# Altium footprint library TallyLight.PcbLib: 10 footprints
Each footprint in its own frame and in the unit in brackets; x right, y up, seen from the top. Pads: shape width x height; smd on the part's side, far side on the other; paste and mask are expansions set on the pad; w line width, h text height; cw(c..) or ccw(c..) is an arc to the next point about the centre after c.
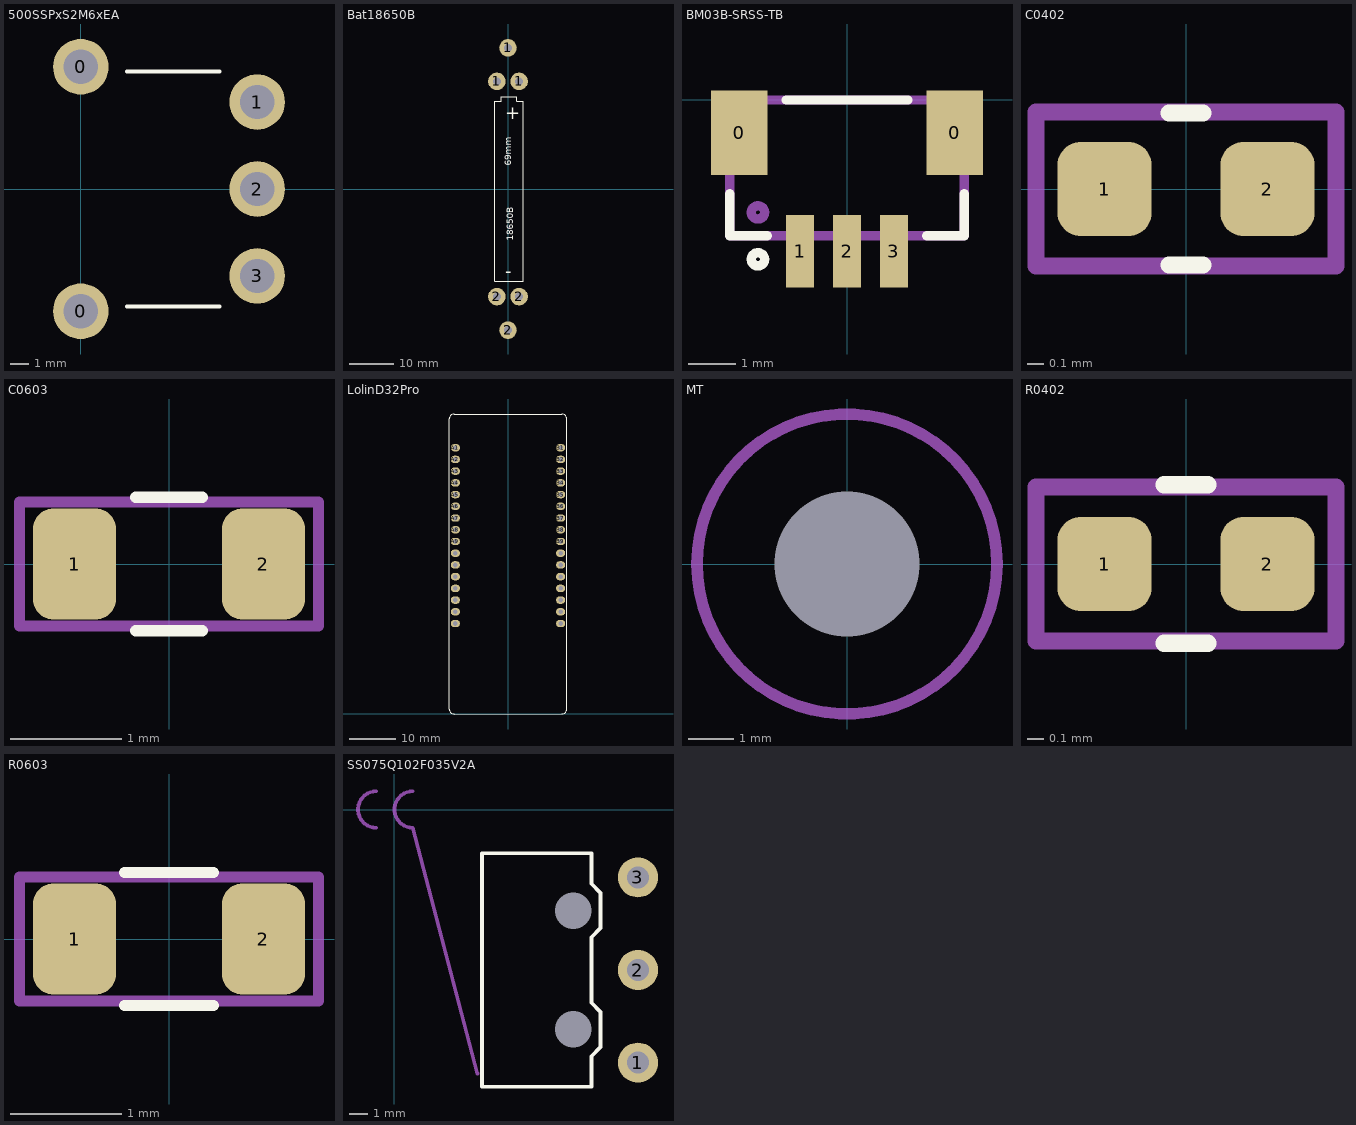
[diagram p0: the footprints below, top view; thin cyan lines are the x and y axes]

## 500SSPxS2M6xEA [mm]
pads (5):
  round 3 hole 1.85: 0(0,-6.605) 0(0,6.605) 1(9.53,4.7) 2(9.53,0) 3(9.53,-4.7)
Top Overlay:
  lines w0.2: 2.5,-6.35 7.5,-6.35 ; 2.5,6.35 7.5,6.35
3D body "500SSPxS2M6xEA.stp": height 6.6, standoff -3.18, extent -8.249,-6.785 10.16,6.785

## Bat18650B [mm]
pads (6):
  round 4 hole 1.83: 1(-2.54,24.5) 1(0,32.12) 1(2.54,24.5) 2(-2.54,-24.5) 2(0,-32.12) 2(2.54,-24.5)
Top Overlay:
  lines w0.2: -3,-21 -3,20 -1.5,20 -1.5,21 2,21 2,20 3.5,20 3.5,-21 -3,-21
  text "-" at -0.6,-20.1 h3
  text "+" at -0.6,15.9 h3
  text "69mm" at 0.746,5.254 h1.52
  text "18650B" at 1.246,-11.746 h1.52
3D body "INR18650-35E.step": height 18.65, standoff 0.35, extent -9.15,-32.5 9.15,33.202
3D body "keystone-PN54.STEP": height 18, standoff -3.35, extent -9.051,-35.507 9.051,-22.5
3D body "keystone-PN54.STEP": height 18, standoff -3.35, extent -9.051,22.5 9.051,35.507

## BM03B-SRSS-TB [mm]
pads (5):
  rect 1.2x1.8 smd: 0(-2.3,-0.7) 0(2.3,-0.7)
  rect 0.6x1.55 smd: 1(-1,-3.225) 2(0,-3.225) 3(1,-3.225)
Top Overlay:
  circle w0.2: c-1.9,-3.4 r0.141
  lines w0.2: -2.5,-2 -2.5,-2.9 -1.7,-2.9 ; -1.3,0 1.3,0 ; 1.7,-2.9 2.5,-2.9 2.5,-2
Mechanical 11:
  circle w0.2: c-1.9,-2.4 r0.141
  lines w0.2: -2.5,-2.9 -2.5,0 2.5,0 2.5,-2.9 -2.5,-2.9
  text ".Designator" at -1.899,-1.309 h0.75
3D body "BM03B-SRSS-TB.STEP": height 4.25, standoff -0.07, extent -2.5,-3.6 2.5,0

## C0402 [mil] "C0402"
pads (2):
  rrect50% 22x22 smd: 1(-19,0) 2(19,0)
Top Overlay:
  lines w4: -3.94,-17.72 3.94,-17.72 ; -3.94,17.72 3.94,17.72
Assembly Notes:
  lines w3.94: -35,-18 -35,18 35,18 35,-18 -35,-18
  text ".Designator" at -29.52,-8.86 h23.62
Mechanical 15:
  lines w0.39: -35,-18 -35,18 35,18 35,-18 -35,-18
3D body "Cap_cap0402_body-1.step": height 19.09, standoff -0.2, extent -19.68,-9.84 19.69,9.85

## C0603 [mm] "C0603"
pads (2):
  rrect50% 0.75x1 smd: 1(-0.85,0) 2(0.85,0)
Top Overlay:
  lines w0.102: -0.3,-0.6 0.3,-0.6 ; -0.3,0.6 0.3,0.6
Assembly Notes:
  lines w0.1: -1.346,-0.559 -1.346,0.559 1.346,0.559 1.346,-0.559 -1.346,-0.559
  text ".Designator" at -1.1,-0.275 h0.75
Mechanical 15:
  lines w0.01: -1.346,-0.559 1.346,-0.559 1.346,0.559 -1.346,0.559 -1.346,-0.559
3D body "CAP0603.stp": height 0.3, standoff 0, extent -0.8,-0.4 0.8,0.4

## LolinD32Pro [mm]
pads (32):
  oval 2x1.6 hole 1.02: A1(-11.4,57.7) A2(-11.4,55.16) A3(-11.4,52.62) A4(-11.4,50.08) A5(-11.4,47.54) A6(-11.4,45) A7(-11.4,42.46) A8(-11.4,39.92) A9(-11.4,37.38) A10(-11.4,34.84) A11(-11.4,32.3) A12(-11.4,29.76) A13(-11.4,27.22) A14(-11.4,24.68) A15(-11.4,22.14) A16(-11.4,19.6) B1(11.4,57.7) B2(11.4,55.16) B3(11.4,52.62) B4(11.4,50.08) B5(11.4,47.54) B6(11.4,45) B7(11.4,42.46) B8(11.4,39.92) B9(11.4,37.38) B10(11.4,34.84) B11(11.4,32.3) B12(11.4,29.76) B13(11.4,27.22) B14(11.4,24.68) B15(11.4,22.14) B16(11.4,19.6)
Top Overlay:
  lines w0.2: -12.7,1 ccw(c-11.7,1) -11.7,0 11.7,0 ccw(c11.7,1) 12.7,1 12.7,64 ccw(c11.7,64) 11.7,65 -11.7,65 ccw(c-11.7,64) -12.7,64 -12.7,1
3D body: height 11, standoff 8.5, extent -12.55,18.05 -10.075,59.225
3D body: height 11, standoff 8.5, extent 10.075,18.05 12.55,59.225
3D body "_ _ _C161LFBN-RC.STEP": height 8.5, standoff -3.2, extent -12.695,18.1 -10.155,59.24
3D body "_ _ _C161LFBN-RC.STEP": height 8.5, standoff -3.2, extent 10.08,18.05 12.62,59.19
3D body "wemos d32 Pro.step": height 17.5, standoff 11, extent -12.7,0 12.7,65

## MT [mm]
pads (1):
  round 0 hole 3.2 unplated: 15(0,0)
Mechanical 1:
  circle w0.254: c0,0 r3.3

## R0402 [mil] "R0402"
pads (2):
  rrect50% 22x22 smd: 1(-19,0) 2(19,0)
Top Overlay:
  lines w4: -5.12,-18.5 5.12,-18.5 ; -5.12,18.5 5.12,18.5
Top Assembly:
  lines w3.94: -35,-18 -35,18 35,18 35,-18 -35,-18
  text ".Designator" at -29.52,-8.86 h23.62
Mechanical 15:
  lines w0.39: -35,-18 35,-18 35,18 -35,18 -35,-18
3D body "RES0402.stp": height 11.81, standoff 0, extent -19.68,-9.84 19.69,9.85

## R0603 [mm] "C0603"
pads (2):
  rrect50% 0.75x1 smd: 1(-0.85,0) 2(0.85,0)
Top Overlay:
  lines w0.1: -0.4,-0.6 0.4,-0.6 ; -0.4,0.6 0.4,0.6
Top Assembly:
  lines w0.1: -1.346,-0.559 -1.346,0.559 1.346,0.559 1.346,-0.559 -1.346,-0.559
  text ".Designator" at -1.1,-0.275 h0.75
Mechanical 15:
  lines w0.01: -1.346,-0.559 1.346,-0.559 1.346,0.559 -1.346,0.559 -1.346,-0.559
3D body "RES0603.stp": height 0.45, standoff 0, extent -0.8,-0.4 0.8,0.4

## SS075Q102F035V2A [mm]
pads (5):
  round 2.2 hole 1.2: 1(13.35,-13.88) 2(13.35,-8.8) 3(13.35,-3.72)
  round 0 hole 2: 14(9.8,-12.05) 14(9.8,-5.55)
Top Overlay:
  lines w0.2: 4.8,-15.2 4.8,-2.4 10.8,-2.4 10.8,-3.55 10.8,-4.075 11.3,-4.575 11.3,-6.5 10.8,-7 10.8,-10.6 11.3,-11.1 11.3,-13.025 10.8,-13.525 10.8,-14.05 10.8,-15.2 4.8,-15.2
Mechanical 1:
  lines w0.2: -1,-1 cw(c-1,0) -1,1 ; 1,-1 cw(c1,0) 1,1
Mechanical 13:
  lines w0.2: 1,-1 4.55,-14.475
  text "PT" at 0.121,-4.371 h1.52
  text "OP" at 1.879,-0.871 h1.52
3D body "SS075xx02FxxxV2A.stp": height 5.77, standoff -3.82, extent 1.781,-15.225 13.5,1.875